# Altium footprint library Mypcb.PcbLib: 144 footprints (part 9 of 9)
Each footprint in its own frame and in the unit in brackets; x right, y up, seen from the top. Pads: shape width x height; smd on the part's side, far side on the other; paste and mask are expansions set on the pad; w line width, h text height; cw(c..) or ccw(c..) is an arc to the next point about the centre after c.
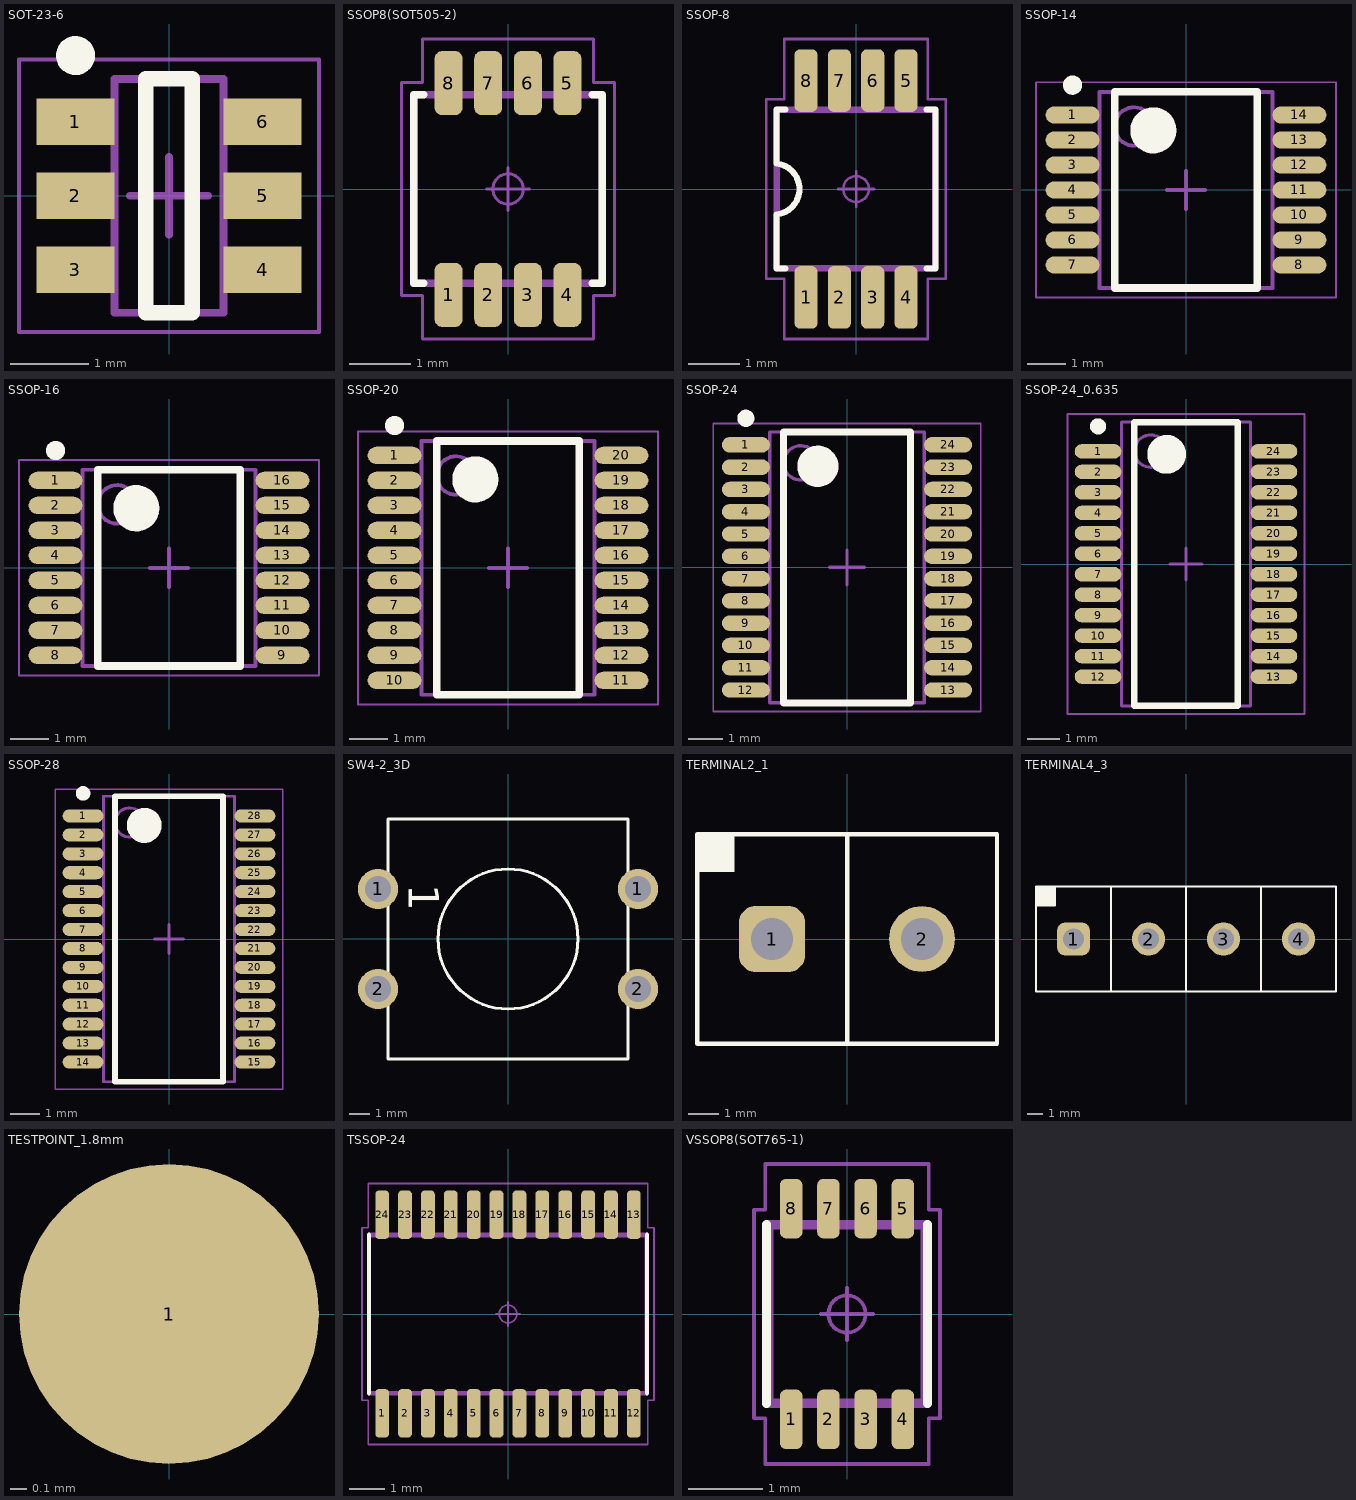
[diagram p8: the footprints below, top view; thin cyan lines are the x and y axes]

## SOT-23-6 [mm] "SOT23, 6-Leads, Body 2,90x2,45mm, Pitch 0,95mm, IPC Medium Density"
height 1.1
pads (6):
  rect 1x0.6 smd: 1(-1.2,0.95) 2(-1.2,0) 3(-1.2,-0.95) 4(1.2,-0.95) 5(1.2,0) 6(1.2,0.95)
Top Overlay:
  circle w0.25: c-1.2,1.8 r0.125
  lines w0.2: -0.3,-1.5 -0.3,1.5 0.3,1.5 0.3,-1.5 -0.3,-1.5
Mechanical 13:
  lines w0.1: -0.7,-1.5 0.7,-1.5 0.7,1.5 -0.7,1.5 -0.7,-1.5
Mechanical 15:
  lines w0.05: -1.925,-1.75 1.925,-1.75 1.925,1.75 -1.925,1.75 -1.925,-1.75
  lines w0.1: -0.5,0 0.5,0 ; 0,-0.5 0,0.5
3D body: height 1.1, standoff 0.05, extent -0.7,-1.5 0.7,1.5

## SSOP8(SOT505-2) [mm] "Small Outline Pkg (SOP), 0.65 mm pitch; 8 pin, 3.00 mm L X 3.00 mm W X 1.10 mm H body"
height 1.1
pads (8):
  rrect52% 0.46x1.05 smd: 1(-0.975,-1.74) 2(-0.325,-1.74) 3(0.325,-1.74) 4(0.975,-1.74) 5(0.975,1.74) 6(0.325,1.74) 7(-0.325,1.74) 8(-0.975,1.74)
Top Overlay:
  lines w0.12: -1.385,-1.55 -1.55,-1.55 -1.55,1.55 -1.385,1.55 ; 1.385,-1.55 1.55,-1.55 1.55,1.55 1.385,1.55
Mechanical 11:
  lines w0.12: -1.55,-1.55 1.55,-1.55 1.55,1.55 -1.55,1.55 -1.55,-1.55
Mechanical 12:
  lines w0.025: -1.5,-1.5 1.5,-1.5 1.5,1.5 -1.5,1.5 -1.5,-1.5 ; -1.125,-2 -1.125,-1.6 -0.825,-1.6 -0.825,-2 -1.125,-2 ; -1.125,1.6 -1.125,2 -0.825,2 -0.825,1.6 -1.125,1.6 ; -0.475,-2 -0.475,-1.6 -0.175,-1.6 -0.175,-2 -0.475,-2 ; -0.475,1.6 -0.475,2 -0.175,2 -0.175,1.6 -0.475,1.6 ; 0.175,-2 0.175,-1.6 0.475,-1.6 0.475,-2 0.175,-2 ; 0.175,1.6 0.175,2 0.475,2 0.475,1.6 0.175,1.6 ; 0.825,-2 0.825,-1.6 1.125,-1.6 1.125,-2 0.825,-2 ; 0.825,1.6 0.825,2 1.125,2 1.125,1.6 0.825,1.6
Mechanical 15:
  circle w0.05: c0,0 r0.25
  lines w0.05: -0.35,0 0.35,0 ; 0,-0.35 0,0.35 ; -1.75,-1.75 -1.405,-1.75 -1.405,-2.465 1.405,-2.465 1.405,-1.75 1.75,-1.75 1.75,1.75 1.405,1.75 1.405,2.465 -1.405,2.465 -1.405,1.75 -1.75,1.75 -1.75,-1.75
3D body "SSOP8_SOT505-2.STEP": height 1.1, standoff 0, extent -1.5,-2 1.5,2

## SSOP-8 [mm] "Small Outline Pkg (SOP), 0.65 mm pitch; 8 pin, 3.00 mm L X 3.00 mm W X 1.10 mm H body"
height 1.1
pads (8):
  rrect49% 0.45x1.22 smd: 1(-0.975,-2.115) 2(-0.325,-2.115) 3(0.325,-2.115) 4(0.975,-2.115) 5(0.975,2.115) 6(0.325,2.115) 7(-0.325,2.115) 8(-0.975,2.115)
Top Overlay:
  lines w0.12: -1.55,-0.497 ccw(c-1.603,0) -1.55,0.497 ; -1.55,-0.5 -1.55,-1.55 -1.38,-1.55 ; -1.55,0.5 -1.55,1.55 -1.38,1.55 ; 1.38,-1.55 1.55,-1.55 1.55,1.55 1.38,1.55
Mechanical 11:
  lines w0.12: -1.55,-1.55 1.55,-1.55 1.55,1.55 -1.55,1.55 -1.55,-1.55
Mechanical 12:
  lines w0.025: -1.5,-1.5 1.5,-1.5 1.5,1.5 -1.5,1.5 -1.5,-1.5 ; -1.128,-2.452 -1.128,-1.917 -0.823,-1.917 -0.823,-2.452 -1.128,-2.452 ; -1.128,1.917 -1.128,2.452 -0.823,2.452 -0.823,1.917 -1.128,1.917 ; -0.477,-2.452 -0.477,-1.917 -0.172,-1.917 -0.172,-2.452 -0.477,-2.452 ; -0.477,1.917 -0.477,2.452 -0.172,2.452 -0.172,1.917 -0.477,1.917 ; 0.172,-2.452 0.172,-1.917 0.477,-1.917 0.477,-2.452 0.172,-2.452 ; 0.172,1.917 0.172,2.452 0.477,2.452 0.477,1.917 0.172,1.917 ; 0.823,-2.452 0.823,-1.917 1.128,-1.917 1.128,-2.452 0.823,-2.452 ; 0.823,1.917 0.823,2.452 1.128,2.452 1.128,1.917 0.823,1.917
Mechanical 15:
  circle w0.05: c0,0 r0.25
  lines w0.05: -0.35,0 0.35,0 ; 0,-0.35 0,0.35 ; -1.75,-1.75 -1.4,-1.75 -1.4,-2.925 1.4,-2.925 1.4,-1.75 1.75,-1.75 1.75,1.75 1.4,1.75 1.4,2.925 -1.4,2.925 -1.4,1.75 -1.75,1.75 -1.75,-1.75
3D body "SOP8P65_300X490X110L53X30.STEP": height 1.1, standoff 0, extent -1.5,-2.452 1.5,2.452

## SSOP-14 [mm] "TSOP, 14-Leads, Body 5,00x4,40mm, Pitch 0,65mm, IPC Medium Density"
height 1.1
pads (14):
  oval 1.4x0.45 smd: 1(-2.95,1.95) 2(-2.95,1.3) 3(-2.95,0.65) 4(-2.95,0) 5(-2.95,-0.65) 6(-2.95,-1.3) 7(-2.95,-1.95) 8(2.95,-1.95) 9(2.95,-1.3) 10(2.95,-0.65) 11(2.95,0) 12(2.95,0.65) 13(2.95,1.3) 14(2.95,1.95)
Top Overlay:
  circle w0.25: c-2.95,2.725 r0.125
  circle w0.6: c-0.85,1.55 r0.3
  lines w0.2: -1.85,-2.55 -1.85,2.55 1.85,2.55 1.85,-2.55 -1.85,-2.55
Mechanical 13:
  circle w0.1: c-1.35,1.65 r0.5
  lines w0.1: -2.25,-2.55 -2.25,2.55 2.25,2.55 2.25,-2.55 -2.25,-2.55
Mechanical 15:
  lines w0.05: -3.9,-2.8 -3.9,2.8 3.9,2.8 3.9,-2.8 -3.9,-2.8
  lines w0.1: -0.5,0 0.5,0 ; 0,-0.5 0,0.5
3D body "TSOP65P640X110-14N.step": height 1.1, standoff 0, extent -3.2,-2.55 3.2,2.55

## SSOP-16 [mm] "TSOP, 16-Leads, Body 5,00x4,40mm, Pitch 0,65mm, IPC Medium Density"
height 1.1
pads (16):
  oval 1.4x0.45 smd: 1(-2.95,2.275) 2(-2.95,1.625) 3(-2.95,0.975) 4(-2.95,0.325) 5(-2.95,-0.325) 6(-2.95,-0.975) 7(-2.95,-1.625) 8(-2.95,-2.275) 9(2.95,-2.275) 10(2.95,-1.625) 11(2.95,-0.975) 12(2.95,-0.325) 13(2.95,0.325) 14(2.95,0.975) 15(2.95,1.625) 16(2.95,2.275)
Top Overlay:
  circle w0.6: c-0.85,1.55 r0.3
  circle w0.25: c-2.95,3.05 r0.125
  lines w0.2: -1.85,-2.55 1.85,-2.55 1.85,2.55 -1.85,2.55 -1.85,-2.55
Mechanical 13:
  circle w0.1: c-1.35,1.65 r0.5
  lines w0.1: -2.25,-2.55 2.25,-2.55 2.25,2.55 -2.25,2.55 -2.25,-2.55
Mechanical 15:
  lines w0.05: -3.9,-2.8 3.9,-2.8 3.9,2.8 -3.9,2.8 -3.9,-2.8
  lines w0.1: -0.5,0 0.5,0 ; 0,-0.5 0,0.5
3D body: height 1.1, standoff 0.05, extent -2.25,-2.55 2.25,2.55

## SSOP-20 [mm] "TSOP, 20-Leads, Body 6,50x4,40mm, Pitch 0,65mm, IPC Medium Density"
height 1.1
pads (20):
  oval 1.4x0.45 smd: 1(-2.95,2.925) 2(-2.95,2.275) 3(-2.95,1.625) 4(-2.95,0.975) 5(-2.95,0.325) 6(-2.95,-0.325) 7(-2.95,-0.975) 8(-2.95,-1.625) 9(-2.95,-2.275) 10(-2.95,-2.925) 11(2.95,-2.925) 12(2.95,-2.275) 13(2.95,-1.625) 14(2.95,-0.975) 15(2.95,-0.325) 16(2.95,0.325) 17(2.95,0.975) 18(2.95,1.625) 19(2.95,2.275) 20(2.95,2.925)
Top Overlay:
  circle w0.6: c-0.85,2.3 r0.3
  circle w0.25: c-2.95,3.7 r0.125
  lines w0.2: -1.85,-3.3 1.85,-3.3 1.85,3.3 -1.85,3.3 -1.85,-3.3
Mechanical 13:
  circle w0.1: c-1.35,2.4 r0.5
  lines w0.1: -2.25,-3.3 2.25,-3.3 2.25,3.3 -2.25,3.3 -2.25,-3.3
Mechanical 15:
  lines w0.05: -3.9,-3.55 3.9,-3.55 3.9,3.55 -3.9,3.55 -3.9,-3.55
  lines w0.1: -0.5,0 0.5,0 ; 0,-0.5 0,0.5
3D body: height 1.1, standoff 0.05, extent -2.25,-3.3 2.25,3.3

## SSOP-24 [mm] "TSOP, 24-Leads, Body 7,80x4,40mm, Pitch 0,65mm, IPC Medium Density"
height 1.1
pads (24):
  oval 1.4x0.45 smd: 1(-2.95,3.575) 2(-2.95,2.925) 3(-2.95,2.275) 4(-2.95,1.625) 5(-2.95,0.975) 6(-2.95,0.325) 7(-2.95,-0.325) 8(-2.95,-0.975) 9(-2.95,-1.625) 10(-2.95,-2.275) 11(-2.95,-2.925) 12(-2.95,-3.575) 13(2.95,-3.575) 14(2.95,-2.925) 15(2.95,-2.275) 16(2.95,-1.625) 17(2.95,-0.975) 18(2.95,-0.325) 19(2.95,0.325) 20(2.95,0.975) 21(2.95,1.625) 22(2.95,2.275) 23(2.95,2.925) 24(2.95,3.575)
Top Overlay:
  circle w0.6: c-0.85,2.95 r0.3
  circle w0.25: c-2.95,4.35 r0.125
  lines w0.2: -1.85,-3.95 1.85,-3.95 1.85,3.95 -1.85,3.95 -1.85,-3.95
Mechanical 13:
  circle w0.1: c-1.35,3.05 r0.5
  lines w0.1: -2.25,-3.95 2.25,-3.95 2.25,3.95 -2.25,3.95 -2.25,-3.95
Mechanical 15:
  lines w0.05: -3.9,-4.2 3.9,-4.2 3.9,4.2 -3.9,4.2 -3.9,-4.2
  lines w0.1: -0.5,0 0.5,0 ; 0,-0.5 0,0.5
3D body: height 1.1, standoff 0.05, extent -2.25,-3.95 2.25,3.95

## SSOP-24_0.635 [mm] "SOP, 24-Leads, Body 8,65x3,90mm, Pitch 0,64mm, IPC Medium Density"
height 1.75
pads (24):
  oval 1.45x0.45 smd: 1(-2.725,3.492) 2(-2.725,2.857) 3(-2.725,2.222) 4(-2.725,1.587) 5(-2.725,0.953) 6(-2.725,0.318) 7(-2.725,-0.318) 8(-2.725,-0.953) 9(-2.725,-1.587) 10(-2.725,-2.222) 11(-2.725,-2.857) 12(-2.725,-3.492) 13(2.725,-3.492) 14(2.725,-2.857) 15(2.725,-2.222) 16(2.725,-1.587) 17(2.725,-0.953) 18(2.725,-0.318) 19(2.725,0.318) 20(2.725,0.953) 21(2.725,1.587) 22(2.725,2.222) 23(2.725,2.857) 24(2.725,3.492)
Top Overlay:
  circle w0.25: c-2.725,4.267 r0.125
  circle w0.6: c-0.6,3.4 r0.3
  lines w0.2: -1.6,-4.4 -1.6,4.4 1.6,4.4 1.6,-4.4 -1.6,-4.4
Mechanical 13:
  circle w0.1: c-1.1,3.5 r0.5
  lines w0.1: -2,-4.4 -2,4.4 2,4.4 2,-4.4 -2,-4.4
Mechanical 15:
  lines w0.05: -3.675,-4.65 -3.675,4.65 3.675,4.65 3.675,-4.65 -3.675,-4.65
  lines w0.1: -0.5,0 0.5,0 ; 0,-0.5 0,0.5
3D body "SOP64P600X175-24N.step": height 1.75, standoff 0, extent -3,-4.4 3,4.4

## SSOP-28 [mm] "TSOP, 28-Leads, Body 9,70x4,40mm, Pitch 0,65mm, IPC Medium Density"
height 1.1
pads (28):
  oval 1.4x0.45 smd: 1(-2.95,4.225) 2(-2.95,3.575) 3(-2.95,2.925) 4(-2.95,2.275) 5(-2.95,1.625) 6(-2.95,0.975) 7(-2.95,0.325) 8(-2.95,-0.325) 9(-2.95,-0.975) 10(-2.95,-1.625) 11(-2.95,-2.275) 12(-2.95,-2.925) 13(-2.95,-3.575) 14(-2.95,-4.225) 15(2.95,-4.225) 16(2.95,-3.575) 17(2.95,-2.925) 18(2.95,-2.275) 19(2.95,-1.625) 20(2.95,-0.975) 21(2.95,-0.325) 22(2.95,0.325) 23(2.95,0.975) 24(2.95,1.625) 25(2.95,2.275) 26(2.95,2.925) 27(2.95,3.575) 28(2.95,4.225)
Top Overlay:
  circle w0.25: c-2.95,5 r0.125
  circle w0.6: c-0.85,3.9 r0.3
  lines w0.2: -1.85,-4.9 -1.85,4.9 1.85,4.9 1.85,-4.9 -1.85,-4.9
Mechanical 13:
  circle w0.1: c-1.35,4 r0.5
  lines w0.1: -2.25,-4.9 -2.25,4.9 2.25,4.9 2.25,-4.9 -2.25,-4.9
Mechanical 15:
  lines w0.05: -3.9,-5.15 -3.9,5.15 3.9,5.15 3.9,-5.15 -3.9,-5.15
  lines w0.1: -0.5,0 0.5,0 ; 0,-0.5 0,0.5
3D body: height 1.1, standoff 0.05, extent -2.25,-4.9 2.25,4.9

## SW4-2_3D [mm]
pads (4):
  round 2 hole 1.3: 1(-6.5,2.5) 1(6.5,2.5) 2(-6.5,-2.5) 2(6.5,-2.5)
Top Overlay:
  circle w0.15: c0,0 r3.5
  lines w0.15: -6,-6 -6,6 6,6 6,-6 -6,-6
  text "1" at -4.95,2.74 h1.52
3D body "TC-12EF.STEP": height 12, standoff -3.5, extent -6.934,-6 6.934,6

## TERMINAL2_1 [mm]
pads (2):
  rrect50% 2.2x2.2 hole 1.4: 1(-2.5,0)
  round 2.2 hole 1.4: 2(2.5,0)
Top Overlay:
  region: -5,2.25 -3.75,2.25 -3.75,3.5 -5,3.5
  lines w0.15: 0,-3.5 0,3.5 ; -5,-3.5 5,-3.5 5,3.5 -5,3.5 -5,-3.5
3D body "ScrewTerminal.STEP": height 10.41, standoff -4.09, extent -4.814,-3.049 5.475,4.551

## TERMINAL4_3 [mm]
pads (4):
  rrect50% 2.2x2.2 hole 1.4: 1(-7.5,0)
  round 2.2 hole 1.4: 2(-2.5,0) 3(2.5,0) 4(7.5,0)
Top Overlay:
  region: -10,2.25 -8.75,2.25 -8.75,3.5 -10,3.5
  lines w0.15: -10,2.25 -8.75,2.25 -8.75,3.5 ; -5,-3.5 -5,3.5 ; 0,-3.5 0,3.5 ; 5,-3.5 5,3.5 ; -10,-3.5 10,-3.5 10,3.5 -10,3.5 -10,-3.5
3D body "ScrewTerminal.STEP": height 10.41, standoff -4.09, extent -10.064,-3.049 0.225,4.551
3D body "ScrewTerminal.STEP": height 10.41, standoff -4.09, extent -0.064,-3.049 10.225,4.551

## TEST_COMPONENT [mm]
3D body "cr123_holder.stp": height 17.08, standoff -4.57, extent -31.687,-28.337 -13.907,15.189
3D body "rfm69w.step": height 1.9, standoff -0.1, extent -13.279,-21.716 6.421,-5.716
3D body "RFM69W.stp": height 2.1, standoff 0, extent -13.397,-4.556 6.303,11.444

## TESTPOINT_1.8mm [mm]
pads (1):
  round 1.8 smd paste-1 mask+0.1: 1(0,0)

## TSSOP-24 [mm] "Small Outline Pkg (SOP), 0.65 mm pitch; 24 pin, 7.80 mm L X 4.40 mm W X 1.10 mm H body"
height 1.1
pads (24):
  rrect51% 0.39x1.37 smd: 1(-3.575,-2.82) 2(-2.925,-2.82) 3(-2.275,-2.82) 4(-1.625,-2.82) 5(-0.975,-2.82) 6(-0.325,-2.82) 7(0.325,-2.82) 8(0.975,-2.82) 9(1.625,-2.82) 10(2.275,-2.82) 11(2.925,-2.82) 12(3.575,-2.82) 13(3.575,2.82) 14(2.925,2.82) 15(2.275,2.82) 16(1.625,2.82) 17(0.975,2.82) 18(0.325,2.82) 19(-0.325,2.82) 20(-0.975,2.82) 21(-1.625,2.82) 22(-2.275,2.82) 23(-2.925,2.82) 24(-3.575,2.82)
Top Overlay:
  lines w0.12: -3.95,-2.25 -3.95,2.25 ; 3.95,-2.25 3.95,2.25
Mechanical 11:
  lines w0.12: -3.95,-2.25 3.95,-2.25 3.95,2.25 -3.95,2.25 -3.95,-2.25
Mechanical 12:
  lines w0.025: -3.9,-2.2 3.9,-2.2 3.9,2.2 -3.9,2.2 -3.9,-2.2 ; -3.698,-3.2 -3.698,-2.575 -3.453,-2.575 -3.453,-3.2 -3.698,-3.2 ; -3.698,2.575 -3.698,3.2 -3.453,3.2 -3.453,2.575 -3.698,2.575 ; -3.047,-3.2 -3.047,-2.575 -2.802,-2.575 -2.802,-3.2 -3.047,-3.2 ; -3.047,2.575 -3.047,3.2 -2.802,3.2 -2.802,2.575 -3.047,2.575 ; -2.398,-3.2 -2.398,-2.575 -2.153,-2.575 -2.153,-3.2 -2.398,-3.2 ; -2.398,2.575 -2.398,3.2 -2.153,3.2 -2.153,2.575 -2.398,2.575 ; -1.747,-3.2 -1.747,-2.575 -1.502,-2.575 -1.502,-3.2 -1.747,-3.2 ; -1.747,2.575 -1.747,3.2 -1.502,3.2 -1.502,2.575 -1.747,2.575 ; -1.098,-3.2 -1.098,-2.575 -0.853,-2.575 -0.853,-3.2 -1.098,-3.2 ; -1.098,2.575 -1.098,3.2 -0.853,3.2 -0.853,2.575 -1.098,2.575 ; -0.447,-3.2 -0.447,-2.575 -0.202,-2.575 -0.202,-3.2 -0.447,-3.2 ; -0.447,2.575 -0.447,3.2 -0.202,3.2 -0.202,2.575 -0.447,2.575 ; 0.202,-3.2 0.202,-2.575 0.447,-2.575 0.447,-3.2 0.202,-3.2 ; 0.202,2.575 0.202,3.2 0.447,3.2 0.447,2.575 0.202,2.575 ; 0.853,-3.2 0.853,-2.575 1.098,-2.575 1.098,-3.2 0.853,-3.2 ; 0.853,2.575 0.853,3.2 1.098,3.2 1.098,2.575 0.853,2.575 ; 1.502,-3.2 1.502,-2.575 1.747,-2.575 1.747,-3.2 1.502,-3.2 ; 1.502,2.575 1.502,3.2 1.747,3.2 1.747,2.575 1.502,2.575 ; 2.153,-3.2 2.153,-2.575 2.398,-2.575 2.398,-3.2 2.153,-3.2 ; 2.153,2.575 2.153,3.2 2.398,3.2 2.398,2.575 2.153,2.575 ; 2.802,-3.2 2.802,-2.575 3.047,-2.575 3.047,-3.2 2.802,-3.2 ; 2.802,2.575 2.802,3.2 3.047,3.2 3.047,2.575 2.802,2.575 ; 3.453,-3.2 3.453,-2.575 3.698,-2.575 3.698,-3.2 3.453,-3.2 ; 3.453,2.575 3.453,3.2 3.698,3.2 3.698,2.575 3.453,2.575
Mechanical 15:
  circle w0.05: c0,0 r0.25
  lines w0.05: -0.35,0 0.35,0 ; 0,-0.35 0,0.35 ; -4.15,-2.45 -3.97,-2.45 -3.97,-3.705 3.97,-3.705 3.97,-2.45 4.15,-2.45 4.15,2.45 3.97,2.45 3.97,3.705 -3.97,3.705 -3.97,2.45 -4.15,2.45 -4.15,-2.45
Mechanical 16:
  text ".Designator" at 0,0 h1.2
3D body "SOP24P65_780X640X110L62X24.STEP": height 1.1, standoff 0, extent -3.9,-3.2 3.9,3.2

## VSSOP8(SOT765-1) [mm] "Small Outline Pkg (SOP), 0.50 mm pitch; 8 pin, 2.00 mm L X 2.30 mm W X 1.00 mm H body"
height 1
pads (8):
  rrect53% 0.3x0.8 smd: 1(-0.75,-1.415) 2(-0.25,-1.415) 3(0.25,-1.415) 4(0.75,-1.415) 5(0.75,1.415) 6(0.25,1.415) 7(-0.25,1.415) 8(-0.75,1.415)
Top Overlay:
  lines w0.12: -1.08,-1.2 -1.08,1.2 ; 1.08,-1.2 1.08,1.2
Mechanical 11:
  lines w0.12: -1.05,-1.2 1.05,-1.2 1.05,1.2 -1.05,1.2 -1.05,-1.2
Mechanical 12:
  lines w0.025: -1,-1.15 1,-1.15 1,1.15 -1,1.15 -1,-1.15 ; -0.86,-1.55 -0.86,-1.275 -0.64,-1.275 -0.64,-1.55 -0.86,-1.55 ; -0.86,1.275 -0.86,1.55 -0.64,1.55 -0.64,1.275 -0.86,1.275 ; -0.36,-1.55 -0.36,-1.275 -0.14,-1.275 -0.14,-1.55 -0.36,-1.55 ; -0.36,1.275 -0.36,1.55 -0.14,1.55 -0.14,1.275 -0.36,1.275 ; 0.14,-1.55 0.14,-1.275 0.36,-1.275 0.36,-1.55 0.14,-1.55 ; 0.14,1.275 0.14,1.55 0.36,1.55 0.36,1.275 0.14,1.275 ; 0.64,-1.55 0.64,-1.275 0.86,-1.275 0.86,-1.55 0.64,-1.55 ; 0.64,1.275 0.64,1.55 0.86,1.55 0.86,1.275 0.64,1.275
Mechanical 15:
  circle w0.05: c0,0 r0.25
  lines w0.05: -0.35,0 0.35,0 ; 0,-0.35 0,0.35 ; -1.25,-1.4 -1.1,-1.4 -1.1,-2.015 1.1,-2.015 1.1,-1.4 1.25,-1.4 1.25,1.4 1.1,1.4 1.1,2.015 -1.1,2.015 -1.1,1.4 -1.25,1.4 -1.25,-1.4
3D body "VSSOP8_SOT765-1.STEP": height 1, standoff 0, extent -1,-1.55 1,1.55